# EAGLE library part EEPROM-24LC512 (library podkommander)
Microchip 512K I2C CMOS Serial EEPROM
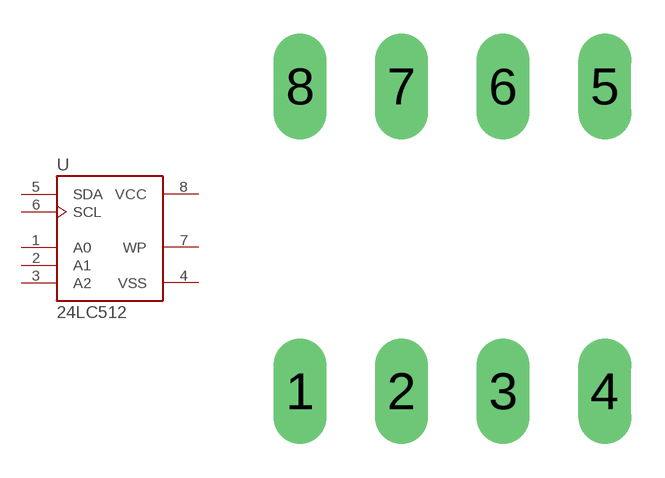
[diagram p5: symbol with the pads of DIP08-SOCKET; footprint DIP08-SOCKET]

Designator prefix U

## EEPROM-24LC512  [DIP08-SOCKET]
1  A0
2  A1
3  A2
4  VSS  pwr
5  SDA
6  SCL
7  WP
8  VCC  pwr

## Footprint DIP08-SOCKET (pad centres in mm)
drill 0.813 long: 1 -3.81,-3.81; 2 -1.27,-3.81; 3 1.27,-3.81; 4 3.81,-3.81; 5 3.81,3.81; 6 1.27,3.81; 7 -1.27,3.81; 8 -3.81,3.81